# Altium schematic symbol library SchLib.SchLib: 6 symbols
Pins are listed as number, name and electrical type; pins without a type are passive.

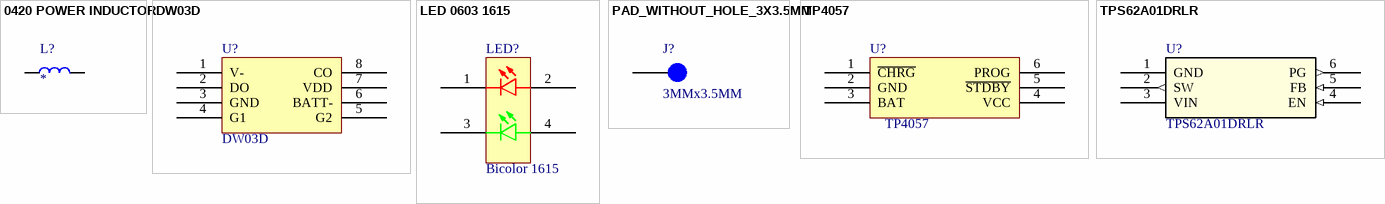
[diagram p0: symbols 0420 POWER INDUCTOR to TPS62A01DRLR]

## 0420 POWER INDUCTOR
designator L?
4*4*2mm SMD 0420 Power Inductor Integrated inductor; Populated: Yes; Value: *; Manuf1: *; Manuf2: *; Manuf1Partnumber: *; Manuf2Partnumber: *; ClassName: *; ROHS: Yes; LifeCycle: Checked; HelpURL: *; Current: *
footprint INDUCTOR 0420 (SMD 0420 Power Inductor Integrated inductor)
pins: 1, 2

## DW03D
designator U?
2-in-1 lithium battery protection IC; ComponentLink1Description: Datasheet; ComponentLink1URL: https://pdf1.alldatasheet.com/datasheet-pdf/view/1143778/FUMAN/DW03D.html
footprint TSOP65P640X120-8N (TSOP, 8-Leads, Body 3,00x4,40mm, Pitch 0,65mm, IPC Medium Density)
pins: 1 V-, 2 DO, 3 GND, 4 G1, 5 G2, 6 BATT-, 7 VDD, 8 CO

## LED 0603 1615
designator LED?, comment Bicolor 1615
SMD SMT Light Emitting Diode 1.6*0.8*0.6MM; ComponentLink1Description: Aliexpress; ComponentLink1URL: https://www.aliexpress.com/item/4001174921701.html?spm=a2g0o.order_list.0.0.12d31802vfu5Sp
footprint LED 0603 1615 BICOLOR (SMD SMT Light Emitting Diode 1.6*0.8*0.6MM)
pins: 1, 2, 3, 4

## PAD_WITHOUT_HOLE_3X3.5MM
designator J?, comment 3MMx3.5MM  (no BOM)
High: 3mm Length: 3.5mm
footprint PAD_WITHOUT_HOLE_3X3.5MM
pins: 1

## TP4057
designator U?
500mA Linear Li-Ion Battery Charger; ComponentLink1Description: Datasheet; ComponentLink1URL: https://pdf1.alldatasheet.com/datasheet-pdf/view/1134940/TPOWER/TP4057.html
footprint SMD IC SOT-23-6 (SOT-223/SC-73; 4 Leads; Body 6.7 x 7.3 mm, inc. leads (LxW max))
pins: 1 ~{CHRG}, 2 GND, 3 BAT, 4 VCC, 5 ~{STDBY}, 6 PROG

## TPS62A01DRLR
designator U?
2.5-V to 5.5-V input, 1-A high-efficiency step-down converter with forced PWM in SOT-563 package; Mfr_Name: Texas Instruments; Copyright: Copyright (C) 2022 Ultra Librarian. All rights reserved.; Manufacturer_Part_Number: TPS62A01DRLR; RefDes: RefDes; Type: DEV; ComponentLink1Description: Datasheet; ComponentLink1URL: https://www.ti.com/document-viewer/TPS62A01A/datasheet/GUID-583A9EFF-0876-4B6A-9171-86BE16EA9829#GUID-016A0F07-62BF-4703-9B43-9200616E2C9F
footprint TI SOT-563 DRL (SOT DRL, 6-Leads, Body 1.10x1.60mm, Pitch 0.5mm, IPC Medium Density)
pins: 1 GND, 2 SW (out), 3 VIN (power), 4 EN (in), 5 FB (in), 6 PG (out)